# EAGLE library part PIC12F629 (library microchip_pic12f)
Low pincount microcontroller http://www.microchip.com/wwwproducts/Devices.aspx?product=PIC12F629 Properties Parameter Name Value Program Memory Type Flash Program Memory (KB) 1.75 CPU Speed (MIPS) 5 RAM Bytes 64 Data EEPROM (bytes) 128 Timers 1 x 8-bit, 1 x 16-bit Comparators 1 Temperature Range (C) -40 to 125 Operating Voltage Range (V) 2 to 5.5 Pin Count 8 Features 128 bytes of EEPROM data memory, Programmable pull-up resistors, MPLAB® ICD-2 programming support or debugging support with optional header adapter, 4 oscillator selections including 4 MHz RC oscillator with programmable calibration and Power-On Reset. Library from www.mikroelektroniikka.fi/lbr
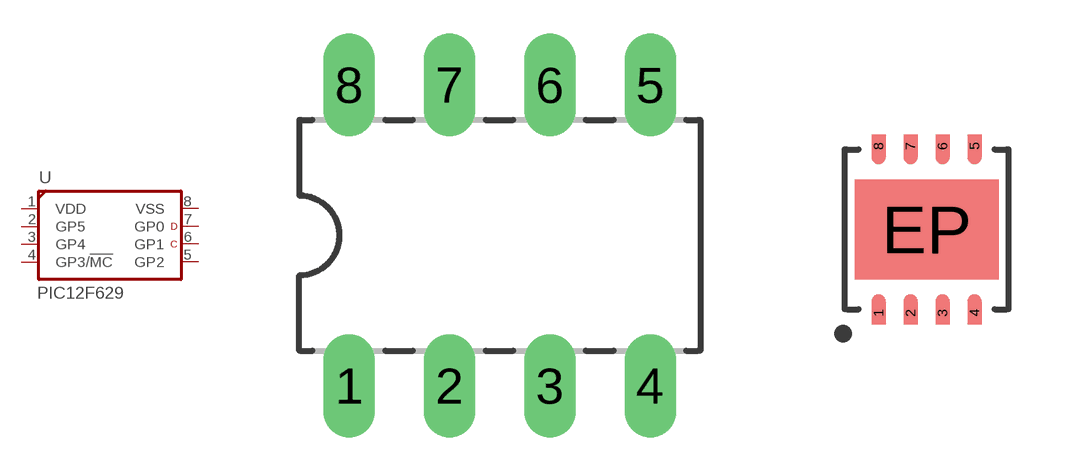
[diagram p14: symbol with the pads of DIL8-P; footprints DIL8-P, DFN8-MD]

Designator prefix U

## PIC12F629/P  [DIL8-P]
1  VDD  pas
2  GP5
3  GP4
4  GP3/!MC!
5  GP2
6  GP1
7  GP0
8  VSS  pas

## PIC12F629/MD  [DFN8-MD]
1  VDD  pas
2  GP5
3  GP4
4  GP3/!MC!
5  GP2
6  GP1
7  GP0
8  VSS  pas
EP  VSS  pas

## PIC12F629/SN  [SOIC8-SN]
Pads as for DIL8-P

## Footprint DIL8-P (pad centres in mm)
PDIP8 (P) 8-Lead plastic dual in line - 300mil body
drill 0.8 pad 1.3 long: 1 -3.81,-3.81; 2 -1.27,-3.81; 3 1.27,-3.81; 4 3.81,-3.81; 5 3.81,3.81; 6 1.27,3.81; 7 -1.27,3.81; 8 -3.81,3.81

## Footprint DFN8-MD (pad centres in mm)
DFN8 (MD) 8-Lead plastic dual, no lead package - 4x4x0.9mm (Microchip)
smd 0.35 x 0.575: 1 -1.2,-2.087; 2 -0.4,-2.087; 3 0.4,-2.087; 4 1.2,-2.087; 5 1.2,2.087; 6 0.4,2.087; 7 -0.4,2.087; 8 -1.2,2.087
smd 3.6 x 2.5: EP 0,0

## Footprint SOIC8-SN (pad centres in mm)
SOIC8 (SN) 8-Lead plastic small outline - narrow - 3.9 mm body
smd 0.6 x 1.5: 1 -1.905,-2.7; 2 -0.635,-2.7; 3 0.635,-2.7; 4 1.905,-2.7; 5 1.905,2.7; 6 0.635,2.7; 7 -0.635,2.7; 8 -1.905,2.7